# EAGLE library part ICSP (library con-fci)
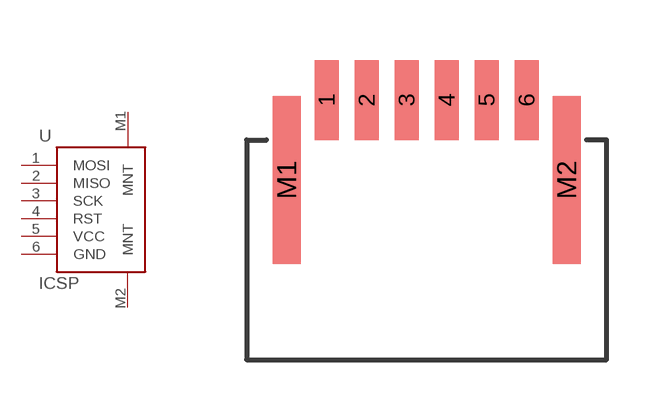
[diagram p0: symbol with the pads of HFW6R-1STE1LF; footprint HFW6R-1STE1LF]

Designator prefix -

## ICSPFLAT_FLEX  [HFW6R-1STE1LF]
1  MOSI
2  MISO
3  SCK
4  RST
5  VCC
6  GND
M1  MNT
M2  MNT

## Footprint HFW6R-1STE1LF (pad centres in mm)
smd 0.6 x 2: 1 -2,0; 2 -1,0; 3 0,0; 4 1,0; 5 2,0; 6 3,0
smd 0.7 x 4.2: M1 -3,-2; M2 4,-2